# Altium schematic symbol library mcu.SchLib: 3 symbols
Pins are listed as number, name and electrical type; pins without a type are passive.

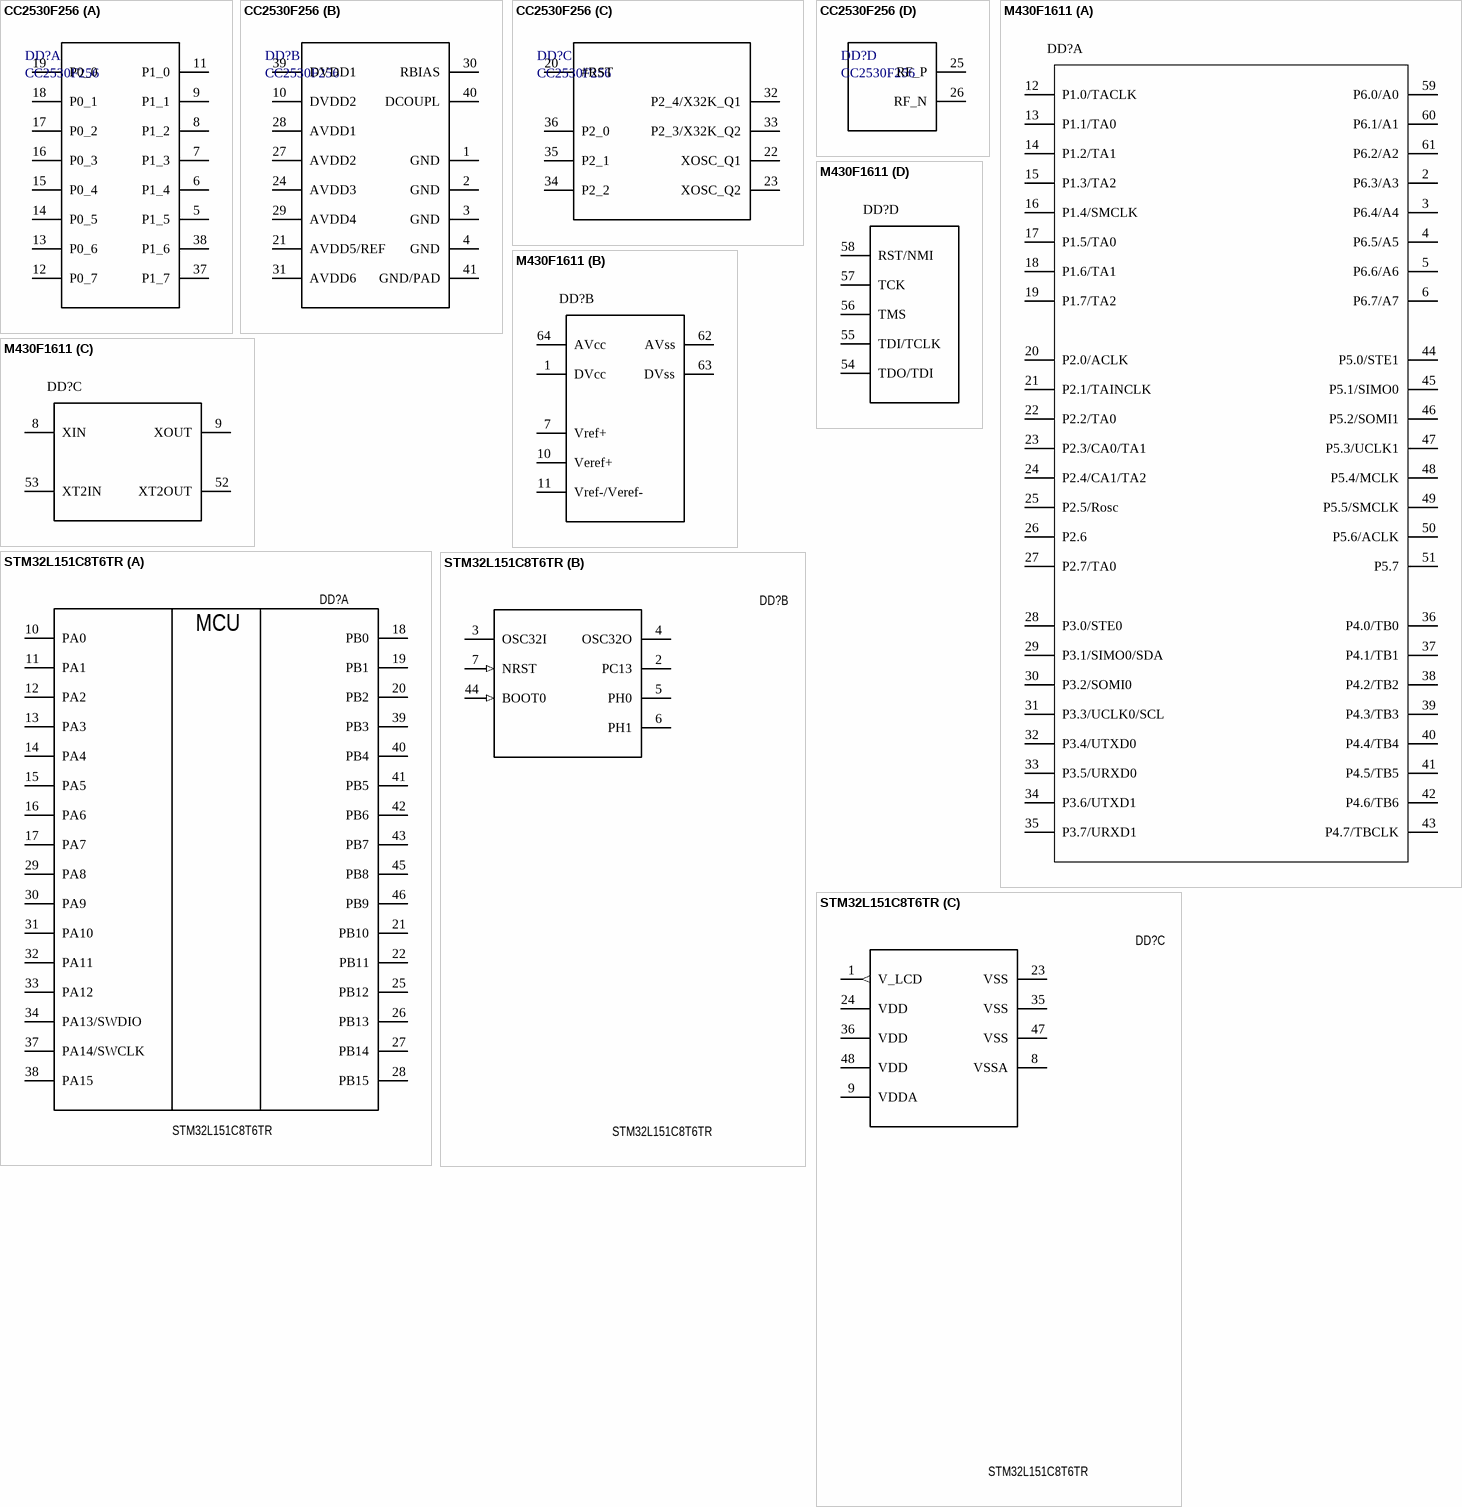
[diagram p0: symbols CC2530F256 to STM32L151C8T6TR]

## CC2530F256
designator DD?
MCU; PartNumber: CC2530F256; Supplier: Terraelectronica; Unit Price: 465; WebLink: https://www.terraelectronica.ru/catalog/komponenty-standarta-zigbee-789?text=CC2530F256&search=CC2530F256
footprint QLP-40 (LQFP-40, 48-Leads, Body 6,00x6,00mm, Pitch 0,50mm)
part A pins: 5 P1_5, 6 P1_4, 7 P1_3, 8 P1_2, 9 P1_1, 11 P1_0, 12 P0_7, 13 P0_6, 14 P0_5, 15 P0_4, 16 P0_3, 17 P0_2, 18 P0_1, 19 P0_0, 37 P1_7, 38 P1_6
part B pins: 1 GND, 2 GND, 3 GND, 4 GND, 10 DVDD2, 21 AVDD5/REF, 24 AVDD3, 27 AVDD2, 28 AVDD1, 29 AVDD4, 30 RBIAS, 31 AVDD6, 39 DVDD1, 40 DCOUPL, 41 GND/PAD
part C pins: 20 #RST, 22 XOSC_Q1, 23 XOSC_Q2, 32 P2_4/X32K_Q1, 33 P2_3/X32K_Q2, 34 P2_2, 35 P2_1, 36 P2_0
part D pins: 25 RF_P, 26 RF_N

## M430F1611
designator DD?  (value not drawn)
MCU; PartNumber: MSP430F1611IPM; Supplier: Terraelectronica; Unit Price: 1480; WebLink: https://www.terraelectronica.ru/product/67958
footprint LQFP-64 (LQFP, 64-Leads, Body 10,00x10,00mm, Pitch 0,50mm, IPC Medium Density)
part A pins: 2 P6.3/A3, 3 P6.4/A4, 4 P6.5/A5, 5 P6.6/A6, 6 P6.7/A7, 12 P1.0/TACLK, 13 P1.1/TA0, 14 P1.2/TA1, 15 P1.3/TA2, 16 P1.4/SMCLK, 17 P1.5/TA0, 18 P1.6/TA1, 19 P1.7/TA2, 20 P2.0/ACLK, 21 P2.1/TAINCLK, 22 P2.2/TA0, 23 P2.3/CA0/TA1, 24 P2.4/CA1/TA2, 25 P2.5/Rosc, 26 P2.6, 27 P2.7/TA0, 28 P3.0/STE0, 29 P3.1/SIMO0/SDA, 30 P3.2/SOMI0, 31 P3.3/UCLK0/SCL, 32 P3.4/UTXD0, 33 P3.5/URXD0, 34 P3.6/UTXD1, 35 P3.7/URXD1, 36 P4.0/TB0, 37 P4.1/TB1, 38 P4.2/TB2, 39 P4.3/TB3, 40 P4.4/TB4, 41 P4.5/TB5, 42 P4.6/TB6, 43 P4.7/TBCLK, 44 P5.0/STE1, 45 P5.1/SIMO0, 46 P5.2/SOMI1, 47 P5.3/UCLK1, 48 P5.4/MCLK, 49 P5.5/SMCLK, 50 P5.6/ACLK, 51 P5.7, 59 P6.0/A0, 60 P6.1/A1, 61 P6.2/A2
part B pins: 1 DVcc, 7 Vref+, 10 Veref+, 11 Vref-/Veref-, 62 AVss, 63 DVss, 64 AVcc
part C pins: 8 XIN, 9 XOUT, 52 XT2OUT, 53 XT2IN
part D pins: 54 TDO/TDI, 55 TDI/TCLK, 56 TMS, 57 TCK, 58 RST/NMI

## STM32L151C8T6TR
designator DD?
footprint LQFP-48 (LQFP-48, 48-Leads, Body 7,00x7,00mm, Pitch 0,50mm, IPC Medium Density)
part A pins: 10 PA0, 11 PA1, 12 PA2, 13 PA3, 14 PA4, 15 PA5, 16 PA6, 17 PA7, 18 PB0, 19 PB1, 20 PB2, 21 PB10, 22 PB11, 25 PB12, 26 PB13, 27 PB14, 28 PB15, 29 PA8, 30 PA9, 31 PA10, 32 PA11, 33 PA12, 34 PA13/SWDIO, 37 PA14/SWCLK, 38 PA15, 39 PB3, 40 PB4, 41 PB5, 42 PB6, 43 PB7, 45 PB8, 46 PB9
part B pins: 2 PC13, 3 OSC32I, 4 OSC32O, 5 PH0, 6 PH1, 7 NRST (in), 44 BOOT0 (in)
part C pins: 1 V_LCD (out), 8 VSSA (power), 9 VDDA (power), 23 VSS (power), 24 VDD (power), 35 VSS (power), 36 VDD (power), 47 VSS (power), 48 VDD (power)
part A text: MCU